# Altium integrated library ssm2164_2.IntLib: 2 symbols
Pins are listed as number, name and electrical type; pins without a type are passive.

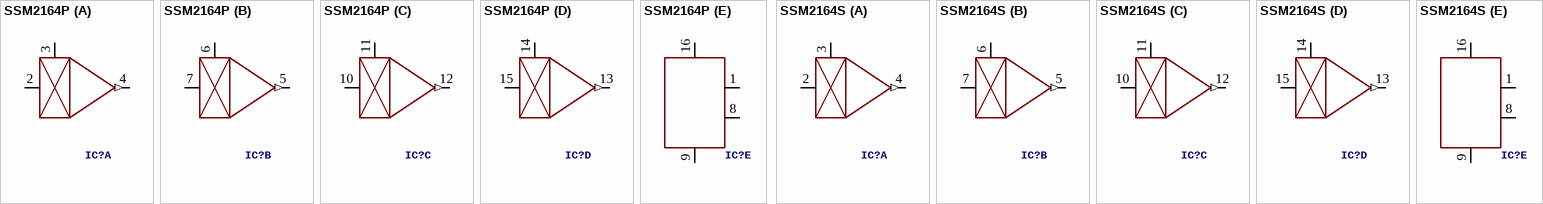
[diagram p0: symbols SSM2164P to SSM2164S]

## SSM2164P
designator IC?
GateName_1: A; SymbolName_1: GAINCELL; GateName_2: B; GateName_3: C; GateName_4: D; GateName_5: E; SymbolName_5: VCCBLK; DeviceName: P; DeviceSetName: SSM2164; SymbolName_2: GAINCELL; SymbolName_3: GAINCELL; SymbolName_4: GAINCELL; LibraryName: ssm2164_2; Package: DIL16
footprint DIL16
part A pins: 2 IN, 3 CTRL, 4 OUT (out)
part B pins: 5 OUT (out), 6 CTRL, 7 IN
part C pins: 10 IN, 11 CTRL, 12 OUT (out)
part D pins: 13 OUT (out), 14 CTRL, 15 IN
part E pins: 1 MODE, 8 GND (power), 9 V- (power), 16 V+ (power)

## SSM2164S
designator IC?
GateName_1: A; SymbolName_1: GAINCELL; GateName_2: B; GateName_3: C; GateName_4: D; GateName_5: E; SymbolName_5: VCCBLK; DeviceName: S; DeviceSetName: SSM2164; SymbolName_2: GAINCELL; SymbolName_3: GAINCELL; SymbolName_4: GAINCELL; LibraryName: ssm2164_2; Package: SOIC16N
footprint SOIC16N
part A pins: 2 IN, 3 CTRL, 4 OUT (out)
part B pins: 5 OUT (out), 6 CTRL, 7 IN
part C pins: 10 IN, 11 CTRL, 12 OUT (out)
part D pins: 13 OUT (out), 14 CTRL, 15 IN
part E pins: 1 MODE, 8 GND (power), 9 V- (power), 16 V+ (power)